# Altium schematic symbol library TDK.SchLib: 2 symbols
Pins are listed as number, name and electrical type; pins without a type are passive.

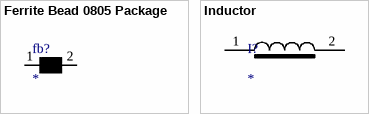
[diagram p0: symbols Ferrite Bead 0805 Package to Inductor]

## Ferrite Bead 0805 Package
designator fb?
Ferrite Bead
footprint 0805
pins: 1, 2

## Inductor
designator I?
Inductor with Ferrite core
footprint DR125 (Large Inductor package)
pins: 1, 2